# EAGLE library part MCP2551-I/SN (library MCP2551-I_SN)
Check prices <https://pricing.snapeda.com/parts/MCP2551-I/SN/Microchip/view-part?ref=eda>
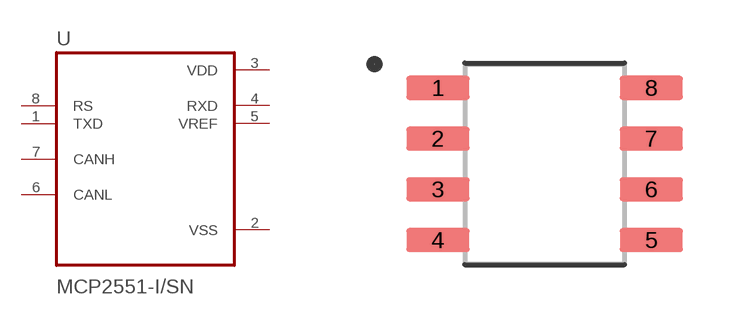
[diagram p0: symbol with the pads of SOIC127P599X175-8N; footprint SOIC127P599X175-8N]

Designator prefix -

## MCP2551-I/SN (Availability: Good; Description: 1/1 Transceiver Half CANbus 8-SOIC; MF: Microchip; MP: MCP2551-I/SN; Package: SOIC-8 Microchip; Price: None; Purchase-URL: https://pricing.snapeda.com/search/part/MCP2551-I/SN/?ref=eda)  [SOIC127P599X175-8N]
1  TXD  in
2  VSS  pwr
3  VDD  pwr
4  RXD  out
5  VREF  out
6  CANL
7  CANH
8  RS  in

## Footprint SOIC127P599X175-8N (pad centres in mm)
smd 1.58 x 0.6: 1 -2.67,1.905; 2 -2.67,0.635; 3 -2.67,-0.635; 4 -2.67,-1.905; 5 2.67,-1.905; 6 2.67,-0.635; 7 2.67,0.635; 8 2.67,1.905